# EAGLE library part SC195ULTRT (library IC)
IC REG BUCK PROG 500MA 8MLPQ Manufacturer's datasheet <https://semtech.my.salesforce.com/sfc/p/#E0000000JelG/a/2R000000HSgI/IVs0RGbvoRl9gvX.t.OhH1PUKGj68U6PCX5ep9g1i8w>
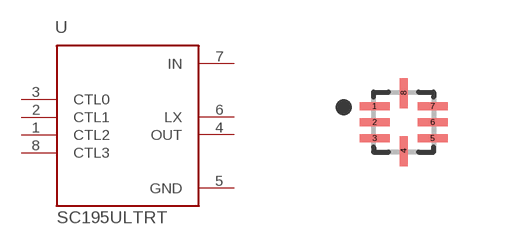
[diagram p32: symbol with the pads of 8-VFQFN; footprint 8-VFQFN]

Designator prefix U

## SC195ULTRT (CREATED_BY: PCBLayout.com; DIGIKEY_PARTNO: SC195ULDKR-ND; MANUFACTURER: Semtech Corporation; MPN: SC195ULTRT; PACKAGE: 8-VFQFN)  [8-VFQFN]
1  CTL2  in
2  CTL1  in
3  CTL0  in
4  OUT  out
5  GND  pwr
6  LX  out
7  IN  pwr
8  CTL3  in

## Footprint 8-VFQFN (pad centres in mm)
smd 0.75 x 0.2: 1 -0.725,0.4; 2 -0.725,0; 3 -0.725,-0.4; 5 0.725,-0.4; 6 0.725,0; 7 0.725,0.4
smd 0.2 x 0.75: 4 0,-0.725; 8 0,0.725